# Altium schematic symbol library AL8861WT-7.SchLib: 1 symbol
Pins are listed as number, name and electrical type; pins without a type are passive.

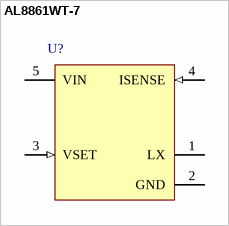
[diagram p0: symbol AL8861WT-7]

## AL8861WT-7
designator U?
pins: 1 LX (power), 2 GND (power), 3 VSET (in), 4 ISENSE (in), 5 VIN (power)